# Altium footprint library crystal.PcbLib: 1 footprints
Each footprint in its own frame and in the unit in brackets; x right, y up, seen from the top. Pads: shape width x height; smd on the part's side, far side on the other; paste and mask are expansions set on the pad; w line width, h text height; cw(c..) or ccw(c..) is an arc to the next point about the centre after c.
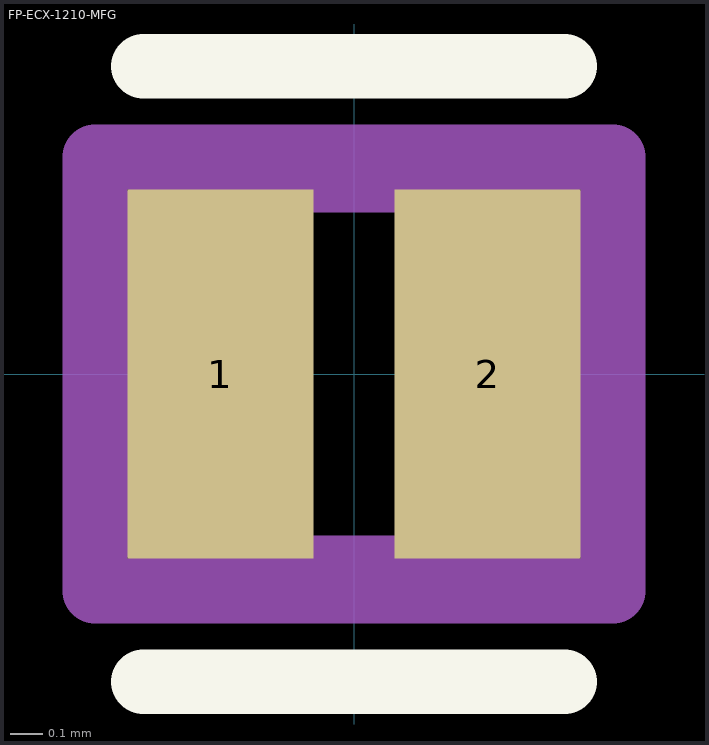
[diagram p0: the footprint, top view; thin cyan lines are the x and y axes]

## FP-ECX-1210-MFG [mm]
pads (2):
  rect 0.575x1.14 smd paste+0 mask+0: 1(-0.413,0) 2(0.413,0)
Top Overlay:
  lines w0.2: -0.65,-0.95 0.65,-0.95 ; -0.65,0.95 0.65,0.95
Top Component Outline:
  lines w0.102: -0.65,-0.55 0.65,-0.55 0.65,0.55 -0.65,0.55 -0.65,-0.55
  lines w0.2: -0.8,-0.67 -0.8,0.67 0.8,0.67 0.8,-0.67 -0.8,-0.67
  text ".Designator" at 0,0.188 h1
Top Assembly:
  lines w0.2: -0.8,-0.67 -0.8,0.67 0.8,0.67 0.8,-0.67 -0.8,-0.67
3D body "Crys_ECS_International_ECS-_327-12_5-1210-TR_eec.STEP": height 0.5, standoff 0, extent -0.6,-0.5 0.6,0.5